# Altium integrated library Microchip PIC18.IntLib: 1897 symbols (part 51 of 110)
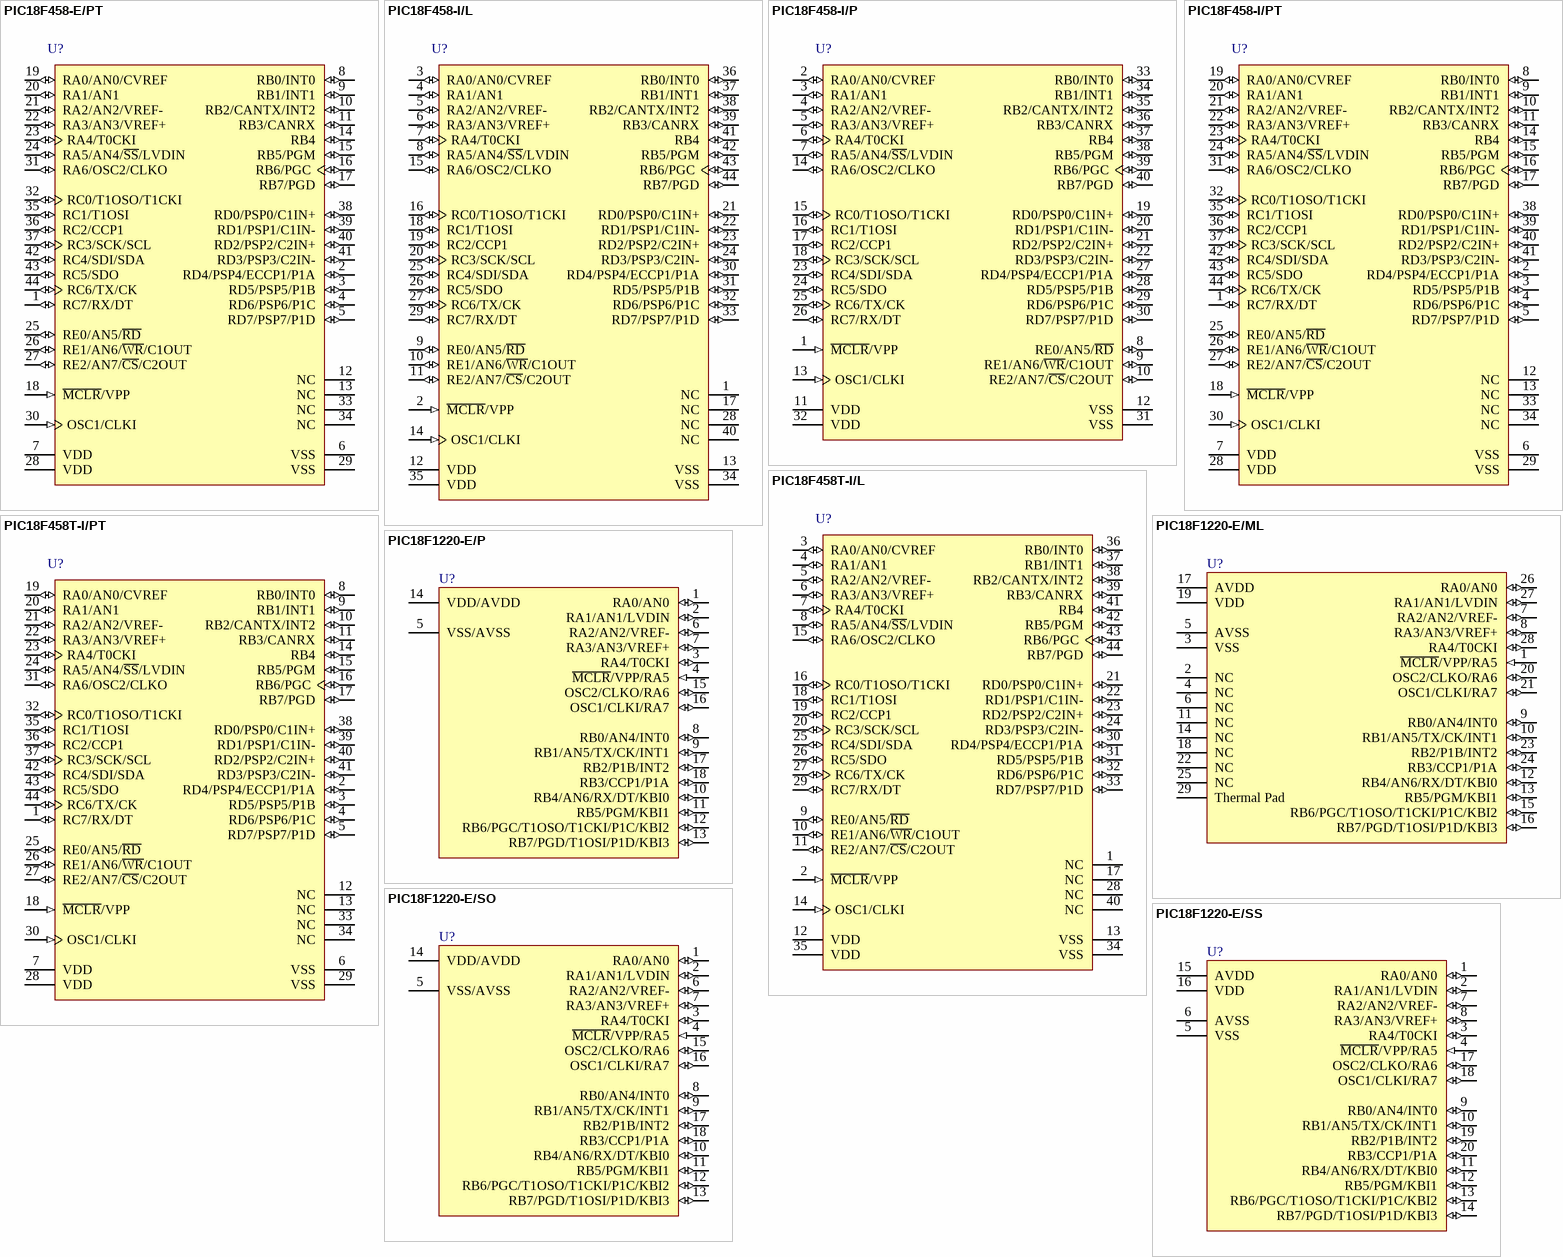
[diagram p248: symbols PIC18F458-E/PT to PIC18F1220-E/SS]

## PIC18F458T-I/L
designator U?
High-Performance, Enhanced Flash Microcontroller with CAN Module, 40 MHz, 33 I/O, -40 to 85 degC, 44-pin PLCC (L44), Tape and Reel; Manufacturer: Microchip; PartNumber: PIC18F458T-I/L; # of A/D Channels: 8; Digital Communication: 0 -UART, 1 -A/E/USART, 0 -SPI, 0 -I2C, 1 -MSSP(SPI/I2C), 0 -SSP(SPI/I2C); EEPROM Data Memory (bytes): 256; I/O Pins: 33; Max. CPU Speed MHz: 40; Operation Voltage Range: 4.2V - 5.5V; Packing: T/R; Program Memory KBytes: 32; Program Memory KWords: 16; RAM: 1536; Timers: 1 - 8-bit, 3 - 16-bit; DatasheetVersion: Rev. E; PackageVersion: C04-048B, 04/2013; PackageReference: PLCC-L44; PackageDescription: 44-Lead Plastic Leaded Chip Carrier, Body 16.5862 x 16.5862 mm, Pitch 1.27 mm; Supplier 1: Digi-Key; Supplier Part Number 1: PIC18F458T-I/L-ND; Supplier 2: Mouser; Supplier Part Number 2: 579-PIC18F458T-I/L; Memory Type: Flash; RoHS: TRUE; Mounting Technology: Surface Mount; ComponentLink1Description: Datasheet; ComponentLink1URL: http://ww1.microchip.com/downloads/en/DeviceDoc/41159e.pdf; ComponentLink2Description: Package Specification; ComponentLink2URL: http://www.microchip.com/stellent/groups/techpub_sg/documents/packagingspec/en012702.pdf; ComponentLink3Description: URL Link1; ComponentLink3URL: Product URL:http://www.microchip.com/datasheet/PIC18F458
footprint MCHP-PLCC-L44_N (PLCC, 44-Leads, Body 16.586x16.586mm, Pitch 1.27mm, IPC Medium Density)
footprint MCHP-PLCC-L44_L (PLCC, 44-Leads, Body 16.586x16.586mm, Pitch 1.27mm, IPC High Density)
footprint MCHP-PLCC-L44_M (PLCC, 44-Leads, Body 16.586x16.586mm, Pitch 1.27mm, IPC Low Density)
pins: 1 NC, 2 ~{MCLR}/VPP (in), 3 RA0/AN0/CVREF (io), 4 RA1/AN1 (io), 5 RA2/AN2/VREF- (io), 6 RA3/AN3/VREF+ (io), 7 RA4/T0CKI (io), 8 RA5/AN4/~{SS}/LVDIN (io), 9 RE0/AN5/~{RD} (io), 10 RE1/AN6/~{WR}/C1OUT (io), 11 RE2/AN7/~{CS}/C2OUT (io), 12 VDD (power) "Positive supply for logic and I/O pins.", 13 VSS (power) "Ground reference for logic and I/O pins.", 14 OSC1/CLKI (in), 15 RA6/OSC2/CLKO (io), 16 RC0/T1OSO/T1CKI (io), 17 NC, 18 RC1/T1OSI (io), 19 RC2/CCP1 (io), 20 RC3/SCK/SCL (io), 21 RD0/PSP0/C1IN+ (io), 22 RD1/PSP1/C1IN- (io), 23 RD2/PSP2/C2IN+ (io), 24 RD3/PSP3/C2IN- (io), 25 RC4/SDI/SDA (io), 26 RC5/SDO (io), 27 RC6/TX/CK (io), 28 NC, 29 RC7/RX/DT (io), 30 RD4/PSP4/ECCP1/P1A (io), 31 RD5/PSP5/P1B (io), 32 RD6/PSP6/P1C (io), 33 RD7/PSP7/P1D (io), 34 VSS (power) "Ground reference for logic and I/O pins.", 35 VDD (power) "Positive supply for logic and I/O pins.", 36 RB0/INT0 (io), 37 RB1/INT1 (io), 38 RB2/CANTX/INT2 (io), 39 RB3/CANRX (io), 40 NC, 41 RB4 (io) "PORTB is a bi-directional I/O port. PORTB can be software programmed for internal weak pull-up on all inputs. Interrupt on change pin.", 42 RB5/PGM (io), 43 RB6/PGC (io), 44 RB7/PGD (io)

## PIC18F458T-I/PT
designator U?
High-Performance, Enhanced Flash Microcontroller with CAN Module, 40 MHz, 33 I/O, -40 to 85 degC, 44-pin TQFP (PT44), Tape and Reel; Manufacturer: Microchip; PartNumber: PIC18F458T-I/PT; # of A/D Channels: 8; Digital Communication: 0 -UART, 1 -A/E/USART, 0 -SPI, 0 -I2C, 1 -MSSP(SPI/I2C), 0 -SSP(SPI/I2C); EEPROM Data Memory (bytes): 256; I/O Pins: 33; Max. CPU Speed MHz: 40; Operation Voltage Range: 4.2V - 5.5V; Packing: T/R; Program Memory KBytes: 32; Program Memory KWords: 16; RAM: 1536; Timers: 1 - 8-bit, 3 - 16-bit; DatasheetVersion: Rev. E; PackageVersion: C04-076B, 12/2012; PackageReference: TQFP-PT44; PackageDescription: 44-Lead Plastic Thin Quad Flatpack, 10 x 10 mm Body, 0.8 mm Pitch; Supplier 1: Digi-Key; Supplier Part Number 1: PIC18F458T-I/PT-ND; Supplier 2: Mouser; Supplier Part Number 2: 579-PIC18F458T-I/PT; Memory Type: Flash; RoHS: TRUE; Mounting Technology: Surface Mount; ComponentLink1Description: Datasheet; ComponentLink1URL: http://ww1.microchip.com/downloads/en/DeviceDoc/41159e.pdf; ComponentLink2Description: Package Specification; ComponentLink2URL: http://www.microchip.com/stellent/groups/techpub_sg/documents/packagingspec/en012702.pdf; ComponentLink3Description: URL Link1; ComponentLink3URL: Product URL:http://www.microchip.com/datasheet/PIC18F458
footprint MCHP-TQFP-PT44_N (QFN, 44-Leads, Body 10x10mm, Pitch 0.8mm, IPC Medium Density)
footprint MCHP-TQFP-PT44_L (QFN, 44-Leads, Body 10x10mm, Pitch 0.8mm, IPC High Density)
footprint MCHP-TQFP-PT44_M (QFN, 44-Leads, Body 10x10mm, Pitch 0.8mm, IPC Low Density)
pins: 1 RC7/RX/DT (io), 2 RD4/PSP4/ECCP1/P1A (io), 3 RD5/PSP5/P1B (io), 4 RD6/PSP6/P1C (io), 5 RD7/PSP7/P1D (io), 6 VSS (power) "Ground reference for logic and I/O pins.", 7 VDD (power) "Positive supply for logic and I/O pins.", 8 RB0/INT0 (io), 9 RB1/INT1 (io), 10 RB2/CANTX/INT2 (io), 11 RB3/CANRX (io), 12 NC, 13 NC, 14 RB4 (io) "Digital I/O. Interrupt-on-change pin.", 15 RB5/PGM (io), 16 RB6/PGC (io), 17 RB7/PGD (io), 18 ~{MCLR}/VPP (in), 19 RA0/AN0/CVREF (io), 20 RA1/AN1 (io), 21 RA2/AN2/VREF- (io), 22 RA3/AN3/VREF+ (io), 23 RA4/T0CKI (io), 24 RA5/AN4/~{SS}/LVDIN (io), 25 RE0/AN5/~{RD} (io), 26 RE1/AN6/~{WR}/C1OUT (io), 27 RE2/AN7/~{CS}/C2OUT (io), 28 VDD (power) "Positive supply for logic and I/O pins.", 29 VSS (power) "Ground reference for logic and I/O pins.", 30 OSC1/CLKI (in), 31 RA6/OSC2/CLKO (io), 32 RC0/T1OSO/T1CKI (io), 33 NC, 34 NC, 35 RC1/T1OSI (io), 36 RC2/CCP1 (io), 37 RC3/SCK/SCL (io), 38 RD0/PSP0/C1IN+ (io), 39 RD1/PSP1/C1IN- (io), 40 RD2/PSP2/C2IN+ (io), 41 RD3/PSP3/C2IN- (io), 42 RC4/SDI/SDA (io), 43 RC5/SDO (io), 44 RC6/TX/CK (io)

## PIC18F1220-E/ML
designator U?
High Performance, Enhanced Flash Microcontroller with 10-Bit A/D and nanoWatt Technology, 4K Flash, 28-Pin QFN, Extended Temperature; Manufacturer: Microchip; PartNumber: PIC18F1220-E/ML; DatasheetVersion: revF, Feb-2007; PackageVersion: C04-105C, 12/2012; PackageReference: QFN-ML28; PackageDescription: 28-Lead Plastic Quad Flat, 6 x 6 mm Body, 0.65 mm Pitch; ComponentLink1Description: Manufacturer URL; ComponentLink1URL: http://www.microchip.com/; ComponentLink2Description: Datasheet; ComponentLink2URL: http://ww1.microchip.com/downloads/en/DeviceDoc/39605F.pdf; ComponentLink3Description: Package Specification; ComponentLink3URL: http://www.microchip.com/stellent/groups/techpub_sg/documents/packagingspec/en012702.pdf
footprint MCHP-QFN-ML28_N (QFN, 28-Leads, Body 6x6mm, Pitch 0.65mm, Thermal Pad 3.7x3.7mm, IPC Medium Density)
footprint MCHP-QFN-ML28_L (QFN, 28-Leads, Body 6x6mm, Pitch 0.65mm, Thermal Pad 3.7x3.7mm, IPC High Density)
footprint MCHP-QFN-ML28_M (QFN, 28-Leads, Body 6x6mm, Pitch 0.65mm, Thermal Pad 3.7x3.7mm, IPC Low Density)
pins: 1 ~{MCLR}/VPP/RA5 (in), 2 NC, 3 VSS (power), 4 NC, 5 AVSS (power), 6 NC, 7 RA2/AN2/VREF- (io), 8 RA3/AN3/VREF+ (io), 9 RB0/AN4/INT0 (io), 10 RB1/AN5/TX/CK/INT1 (io), 11 NC, 12 RB4/AN6/RX/DT/KBI0 (io), 13 RB5/PGM/KBI1 (io), 14 NC, 15 RB6/PGC/T1OSO/T1CKI/P1C/KBI2 (io), 16 RB7/PGD/T1OSI/P1D/KBI3 (io), 17 AVDD (power), 18 NC, 19 VDD (power), 20 OSC2/CLKO/RA6 (io), 21 OSC1/CLKI/RA7 (io), 22 NC, 23 RB2/P1B/INT2 (io), 24 RB3/CCP1/P1A (io), 25 NC, 26 RA0/AN0 (io), 27 RA1/AN1/LVDIN (io), 28 RA4/T0CKI (io), 29 Thermal Pad (power)

## PIC18F1220-E/P
designator U?
High Performance, Enhanced Flash Microcontroller with 10-Bit A/D and nanoWatt Technology, 4K Flash, 18-Pin PDIP, Extended Temperature; Manufacturer: Microchip; PartNumber: PIC18F1220-E/P; DatasheetVersion: revF, Feb-2007; PackageVersion: revBB, Aug-2009; PackageReference: PDIP300-P18; PackageDescription: 18-Lead Plastic Dual In-Line (P) - 300 mil Body [PDIP]; Code_JEDEC: MS-001; ComponentLink1Description: Manufacturer URL; ComponentLink1URL: http://www.microchip.com/; ComponentLink2Description: Datasheet; ComponentLink2URL: http://ww1.microchip.com/downloads/en/DeviceDoc/39605F.pdf; ComponentLink3Description: Package Specification; ComponentLink3URL: http://www.microchip.com/stellent/groups/techpub_sg/documents/packagingspec/en012702.pdf
footprint PDIP300-P18 (DIP, 18-Leads, Row Spacing 7.62mm, Pitch 2.54mm, Body 22.9x6.6mm)
pins: 1 RA0/AN0 (io), 2 RA1/AN1/LVDIN (io), 3 RA4/T0CKI (io), 4 ~{MCLR}/VPP/RA5 (in), 5 VSS/AVSS (power), 6 RA2/AN2/VREF- (io), 7 RA3/AN3/VREF+ (io), 8 RB0/AN4/INT0 (io), 9 RB1/AN5/TX/CK/INT1 (io), 10 RB4/AN6/RX/DT/KBI0 (io), 11 RB5/PGM/KBI1 (io), 12 RB6/PGC/T1OSO/T1CKI/P1C/KBI2 (io), 13 RB7/PGD/T1OSI/P1D/KBI3 (io), 14 VDD/AVDD (power), 15 OSC2/CLKO/RA6 (io), 16 OSC1/CLKI/RA7 (io), 17 RB2/P1B/INT2 (io), 18 RB3/CCP1/P1A (io)

## PIC18F1220-E/SO
designator U?
High Performance, Enhanced Flash Microcontroller with 10-Bit A/D and nanoWatt Technology, 4K Flash, 18-Pin SOIC, Extended Temperature; Manufacturer: Microchip; PartNumber: PIC18F1220-E/SO; DatasheetVersion: revF, Feb-2007; PackageVersion: C04-051C, 12/2012; PackageReference: SOIC-SO18; PackageDescription: 18-Lead Plastic Small Outline, 7.5 x 11.55 mm Body, 1.27 mm Pitch; ComponentLink1Description: Manufacturer URL; ComponentLink1URL: http://www.microchip.com/; ComponentLink2Description: Datasheet; ComponentLink2URL: http://ww1.microchip.com/downloads/en/DeviceDoc/39605F.pdf; ComponentLink3Description: Package Specification; ComponentLink3URL: http://www.microchip.com/stellent/groups/techpub_sg/documents/packagingspec/en012702.pdf
footprint MCHP-SOIC-SO18_N (SOIC, 18-Leads, Body 11.55x7.5mm, Pitch 1.27mm, IPC Medium Density)
footprint MCHP-SOIC-SO18_L (SOIC, 18-Leads, Body 11.55x7.5mm, Pitch 1.27mm, IPC High Density)
footprint MCHP-SOIC-SO18_M (SOIC, 18-Leads, Body 11.55x7.5mm, Pitch 1.27mm, IPC Low Density)
pins: 1 RA0/AN0 (io), 2 RA1/AN1/LVDIN (io), 3 RA4/T0CKI (io), 4 ~{MCLR}/VPP/RA5 (in), 5 VSS/AVSS (power), 6 RA2/AN2/VREF- (io), 7 RA3/AN3/VREF+ (io), 8 RB0/AN4/INT0 (io), 9 RB1/AN5/TX/CK/INT1 (io), 10 RB4/AN6/RX/DT/KBI0 (io), 11 RB5/PGM/KBI1 (io), 12 RB6/PGC/T1OSO/T1CKI/P1C/KBI2 (io), 13 RB7/PGD/T1OSI/P1D/KBI3 (io), 14 VDD/AVDD (power), 15 OSC2/CLKO/RA6 (io), 16 OSC1/CLKI/RA7 (io), 17 RB2/P1B/INT2 (io), 18 RB3/CCP1/P1A (io)

## PIC18F1220-E/SS
designator U?
High Performance, Enhanced Flash Microcontroller with 10-Bit A/D and nanoWatt Technology, 4K Flash, 20-Pin SSOP, Extended Temperature; Manufacturer: Microchip; PartNumber: PIC18F1220-E/SS; DatasheetVersion: revF, Feb-2007; PackageVersion: C04-072B, 12/2012; PackageReference: SSOP-SS20; PackageDescription: 20-Lead Plastic Shrink Small Outline, 5.3 x 7.2 mm Body, 0.65 mm Pitch; ComponentLink1Description: Manufacturer URL; ComponentLink1URL: http://www.microchip.com/; ComponentLink2Description: Datasheet; ComponentLink2URL: http://ww1.microchip.com/downloads/en/DeviceDoc/39605F.pdf; ComponentLink3Description: Package Specification; ComponentLink3URL: http://www.microchip.com/stellent/groups/techpub_sg/documents/packagingspec/en012702.pdf
footprint MCHP-SSOP-SS20_N (SOP, 20-Leads, Body 7.2x5.3mm, Pitch 0.65mm, IPC Medium Density)
footprint MCHP-SSOP-SS20_L (SOP, 20-Leads, Body 7.2x5.3mm, Pitch 0.65mm, IPC High Density)
footprint MCHP-SSOP-SS20_M (SOP, 20-Leads, Body 7.2x5.3mm, Pitch 0.65mm, IPC Low Density)
pins: 1 RA0/AN0 (io), 2 RA1/AN1/LVDIN (io), 3 RA4/T0CKI (io), 4 ~{MCLR}/VPP/RA5 (in), 5 VSS (power), 6 AVSS (power), 7 RA2/AN2/VREF- (io), 8 RA3/AN3/VREF+ (io), 9 RB0/AN4/INT0 (io), 10 RB1/AN5/TX/CK/INT1 (io), 11 RB4/AN6/RX/DT/KBI0 (io), 12 RB5/PGM/KBI1 (io), 13 RB6/PGC/T1OSO/T1CKI/P1C/KBI2 (io), 14 RB7/PGD/T1OSI/P1D/KBI3 (io), 15 AVDD (power), 16 VDD (power), 17 OSC2/CLKO/RA6 (io), 18 OSC1/CLKI/RA7 (io), 19 RB2/P1B/INT2 (io), 20 RB3/CCP1/P1A (io)

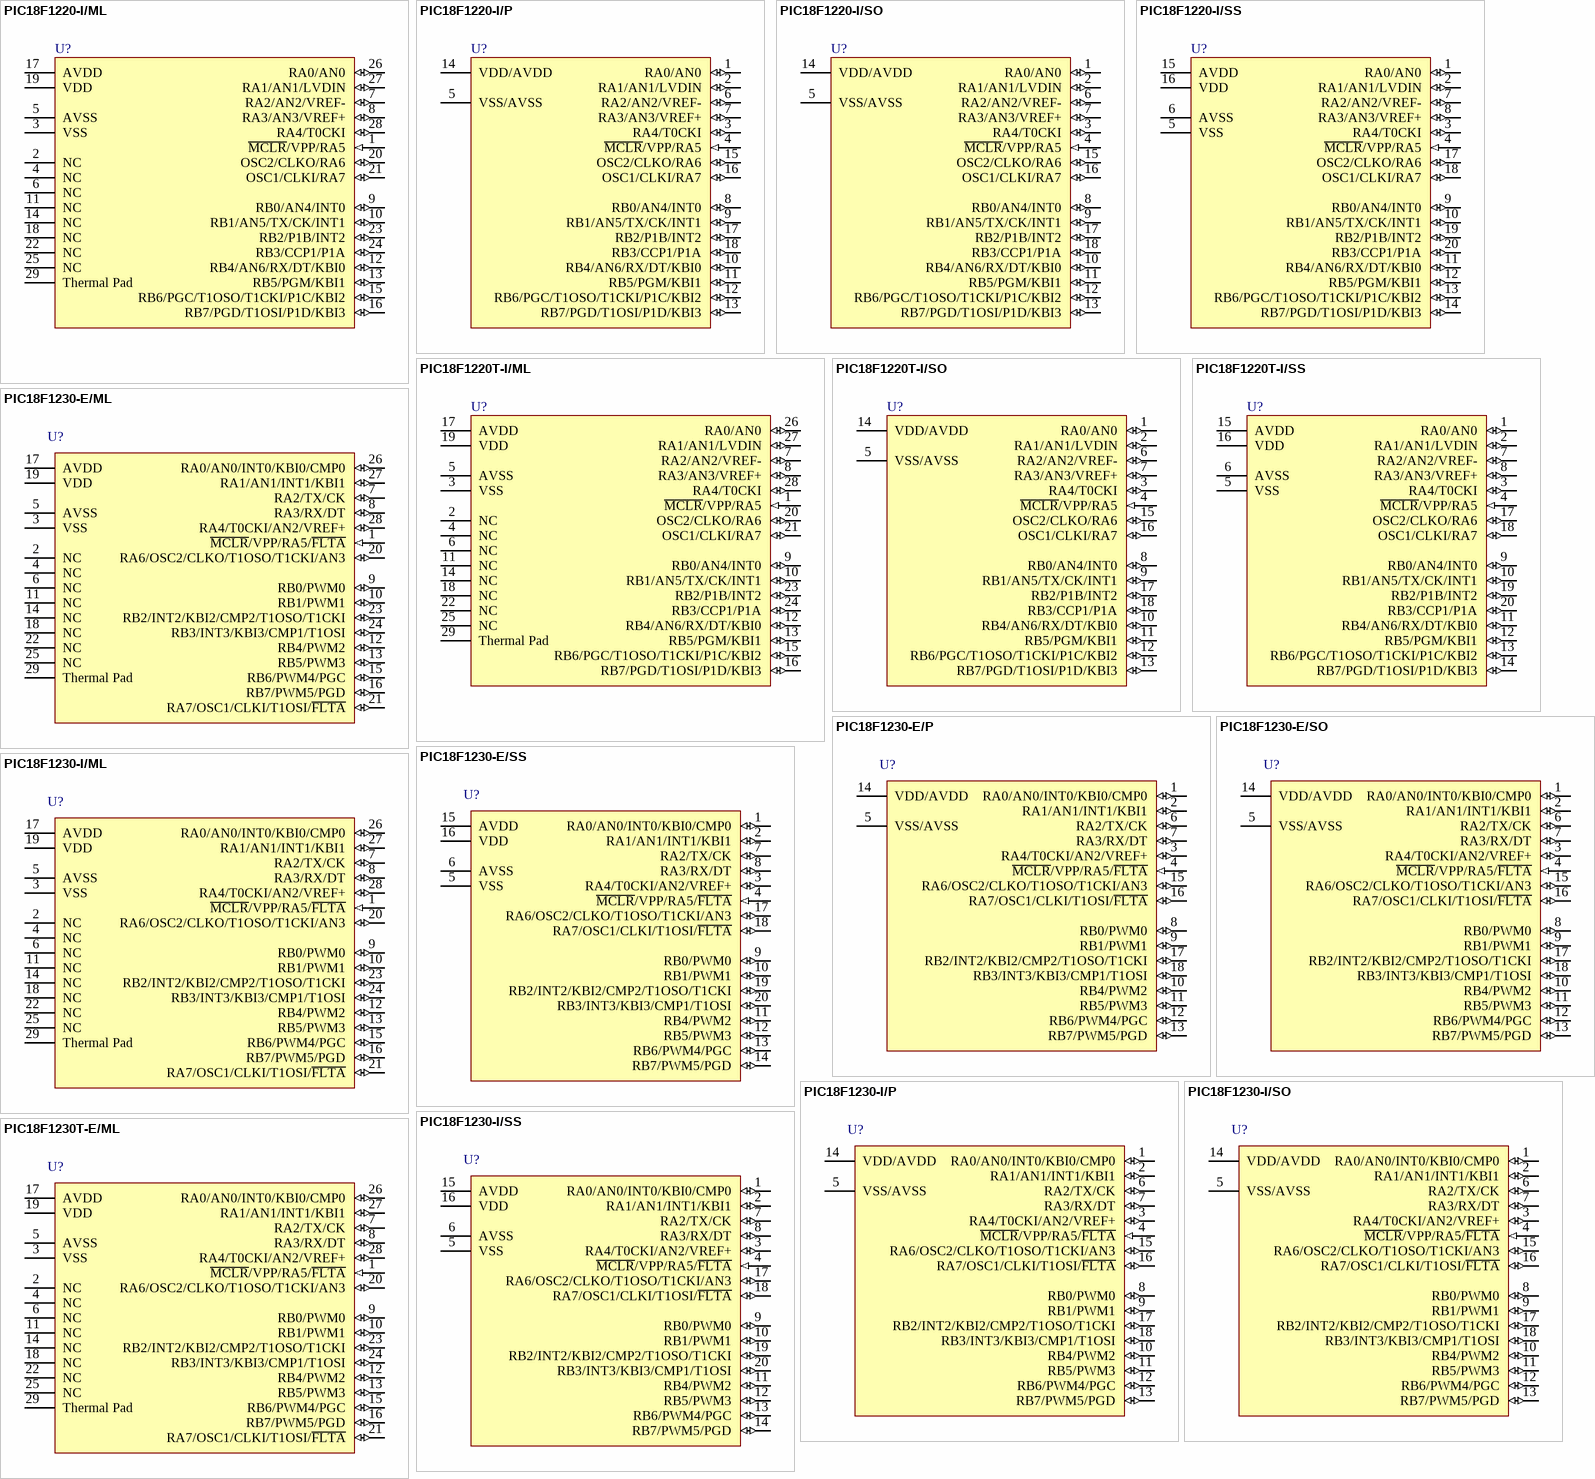
[diagram p92: symbols PIC18F1220-I/ML to PIC18F1230T-E/ML]

## PIC18F1220-I/ML
designator U?
High Performance, Enhanced Flash Microcontroller with 10-Bit A/D and nanoWatt Technology, 4K Flash, 28-Pin QFN, Industrial Temperature; Manufacturer: Microchip; PartNumber: PIC18F1220-I/ML; DatasheetVersion: revF, Feb-2007; PackageVersion: C04-105C, 12/2012; PackageReference: QFN-ML28; PackageDescription: 28-Lead Plastic Quad Flat, 6 x 6 mm Body, 0.65 mm Pitch; ComponentLink1Description: Manufacturer URL; ComponentLink1URL: http://www.microchip.com/; ComponentLink2Description: Datasheet; ComponentLink2URL: http://ww1.microchip.com/downloads/en/DeviceDoc/39605F.pdf; ComponentLink3Description: Package Specification; ComponentLink3URL: http://www.microchip.com/stellent/groups/techpub_sg/documents/packagingspec/en012702.pdf
footprint MCHP-QFN-ML28_N (QFN, 28-Leads, Body 6x6mm, Pitch 0.65mm, Thermal Pad 3.7x3.7mm, IPC Medium Density)
footprint MCHP-QFN-ML28_L (QFN, 28-Leads, Body 6x6mm, Pitch 0.65mm, Thermal Pad 3.7x3.7mm, IPC High Density)
footprint MCHP-QFN-ML28_M (QFN, 28-Leads, Body 6x6mm, Pitch 0.65mm, Thermal Pad 3.7x3.7mm, IPC Low Density)
pins: 1 ~{MCLR}/VPP/RA5 (in), 2 NC, 3 VSS (power), 4 NC, 5 AVSS (power), 6 NC, 7 RA2/AN2/VREF- (io), 8 RA3/AN3/VREF+ (io), 9 RB0/AN4/INT0 (io), 10 RB1/AN5/TX/CK/INT1 (io), 11 NC, 12 RB4/AN6/RX/DT/KBI0 (io), 13 RB5/PGM/KBI1 (io), 14 NC, 15 RB6/PGC/T1OSO/T1CKI/P1C/KBI2 (io), 16 RB7/PGD/T1OSI/P1D/KBI3 (io), 17 AVDD (power), 18 NC, 19 VDD (power), 20 OSC2/CLKO/RA6 (io), 21 OSC1/CLKI/RA7 (io), 22 NC, 23 RB2/P1B/INT2 (io), 24 RB3/CCP1/P1A (io), 25 NC, 26 RA0/AN0 (io), 27 RA1/AN1/LVDIN (io), 28 RA4/T0CKI (io), 29 Thermal Pad (power)

## PIC18F1220-I/P
designator U?
High Performance, Enhanced Flash Microcontroller with 10-Bit A/D and nanoWatt Technology, 4K Flash, 18-Pin PDIP, Industrial Temperature; Manufacturer: Microchip; PartNumber: PIC18F1220-I/P; DatasheetVersion: revF, Feb-2007; PackageVersion: revBB, Aug-2009; PackageReference: PDIP300-P18; PackageDescription: 18-Lead Plastic Dual In-Line (P) - 300 mil Body [PDIP]; Code_JEDEC: MS-001; ComponentLink1Description: Manufacturer URL; ComponentLink1URL: http://www.microchip.com/; ComponentLink2Description: Datasheet; ComponentLink2URL: http://ww1.microchip.com/downloads/en/DeviceDoc/39605F.pdf; ComponentLink3Description: Package Specification; ComponentLink3URL: http://www.microchip.com/stellent/groups/techpub_sg/documents/packagingspec/en012702.pdf
footprint PDIP300-P18 (DIP, 18-Leads, Row Spacing 7.62mm, Pitch 2.54mm, Body 22.9x6.6mm)
pins: 1 RA0/AN0 (io), 2 RA1/AN1/LVDIN (io), 3 RA4/T0CKI (io), 4 ~{MCLR}/VPP/RA5 (in), 5 VSS/AVSS (power), 6 RA2/AN2/VREF- (io), 7 RA3/AN3/VREF+ (io), 8 RB0/AN4/INT0 (io), 9 RB1/AN5/TX/CK/INT1 (io), 10 RB4/AN6/RX/DT/KBI0 (io), 11 RB5/PGM/KBI1 (io), 12 RB6/PGC/T1OSO/T1CKI/P1C/KBI2 (io), 13 RB7/PGD/T1OSI/P1D/KBI3 (io), 14 VDD/AVDD (power), 15 OSC2/CLKO/RA6 (io), 16 OSC1/CLKI/RA7 (io), 17 RB2/P1B/INT2 (io), 18 RB3/CCP1/P1A (io)

## PIC18F1220-I/SO
designator U?
High Performance, Enhanced Flash Microcontroller with 10-Bit A/D and nanoWatt Technology, 4K Flash, 18-Pin SOIC, Industrial Temperature; Manufacturer: Microchip; PartNumber: PIC18F1220-I/SO; DatasheetVersion: revF, Feb-2007; PackageVersion: C04-051C, 12/2012; PackageReference: SOIC-SO18; PackageDescription: 18-Lead Plastic Small Outline, 7.5 x 11.55 mm Body, 1.27 mm Pitch; ComponentLink1Description: Manufacturer URL; ComponentLink1URL: http://www.microchip.com/; ComponentLink2Description: Datasheet; ComponentLink2URL: http://ww1.microchip.com/downloads/en/DeviceDoc/39605F.pdf; ComponentLink3Description: Package Specification; ComponentLink3URL: http://www.microchip.com/stellent/groups/techpub_sg/documents/packagingspec/en012702.pdf
footprint MCHP-SOIC-SO18_N (SOIC, 18-Leads, Body 11.55x7.5mm, Pitch 1.27mm, IPC Medium Density)
footprint MCHP-SOIC-SO18_L (SOIC, 18-Leads, Body 11.55x7.5mm, Pitch 1.27mm, IPC High Density)
footprint MCHP-SOIC-SO18_M (SOIC, 18-Leads, Body 11.55x7.5mm, Pitch 1.27mm, IPC Low Density)
pins: 1 RA0/AN0 (io), 2 RA1/AN1/LVDIN (io), 3 RA4/T0CKI (io), 4 ~{MCLR}/VPP/RA5 (in), 5 VSS/AVSS (power), 6 RA2/AN2/VREF- (io), 7 RA3/AN3/VREF+ (io), 8 RB0/AN4/INT0 (io), 9 RB1/AN5/TX/CK/INT1 (io), 10 RB4/AN6/RX/DT/KBI0 (io), 11 RB5/PGM/KBI1 (io), 12 RB6/PGC/T1OSO/T1CKI/P1C/KBI2 (io), 13 RB7/PGD/T1OSI/P1D/KBI3 (io), 14 VDD/AVDD (power), 15 OSC2/CLKO/RA6 (io), 16 OSC1/CLKI/RA7 (io), 17 RB2/P1B/INT2 (io), 18 RB3/CCP1/P1A (io)

## PIC18F1220-I/SS
designator U?
High Performance, Enhanced Flash Microcontroller with 10-Bit A/D and nanoWatt Technology, 4K Flash, 20-Pin SSOP, Industrial Temperature; Manufacturer: Microchip; PartNumber: PIC18F1220-I/SS; DatasheetVersion: revF, Feb-2007; PackageVersion: C04-072B, 12/2012; PackageReference: SSOP-SS20; PackageDescription: 20-Lead Plastic Shrink Small Outline, 5.3 x 7.2 mm Body, 0.65 mm Pitch; ComponentLink1Description: Manufacturer URL; ComponentLink1URL: http://www.microchip.com/; ComponentLink2Description: Datasheet; ComponentLink2URL: http://ww1.microchip.com/downloads/en/DeviceDoc/39605F.pdf; ComponentLink3Description: Package Specification; ComponentLink3URL: http://www.microchip.com/stellent/groups/techpub_sg/documents/packagingspec/en012702.pdf
footprint MCHP-SSOP-SS20_N (SOP, 20-Leads, Body 7.2x5.3mm, Pitch 0.65mm, IPC Medium Density)
footprint MCHP-SSOP-SS20_L (SOP, 20-Leads, Body 7.2x5.3mm, Pitch 0.65mm, IPC High Density)
footprint MCHP-SSOP-SS20_M (SOP, 20-Leads, Body 7.2x5.3mm, Pitch 0.65mm, IPC Low Density)
pins: 1 RA0/AN0 (io), 2 RA1/AN1/LVDIN (io), 3 RA4/T0CKI (io), 4 ~{MCLR}/VPP/RA5 (in), 5 VSS (power), 6 AVSS (power), 7 RA2/AN2/VREF- (io), 8 RA3/AN3/VREF+ (io), 9 RB0/AN4/INT0 (io), 10 RB1/AN5/TX/CK/INT1 (io), 11 RB4/AN6/RX/DT/KBI0 (io), 12 RB5/PGM/KBI1 (io), 13 RB6/PGC/T1OSO/T1CKI/P1C/KBI2 (io), 14 RB7/PGD/T1OSI/P1D/KBI3 (io), 15 AVDD (power), 16 VDD (power), 17 OSC2/CLKO/RA6 (io), 18 OSC1/CLKI/RA7 (io), 19 RB2/P1B/INT2 (io), 20 RB3/CCP1/P1A (io)

## PIC18F1220T-I/ML
designator U?
High Performance, Enhanced Flash Microcontroller with 10-Bit A/D and nanoWatt Technology, 4K Flash, 28-Pin QFN, Industrial Temperature, Tape and Reel; Manufacturer: Microchip; PartNumber: PIC18F1220T-I/ML; DatasheetVersion: revF, Feb-2007; PackageVersion: C04-105C, 12/2012; PackageReference: QFN-ML28; PackageDescription: 28-Lead Plastic Quad Flat, 6 x 6 mm Body, 0.65 mm Pitch; ComponentLink1Description: Manufacturer URL; ComponentLink1URL: http://www.microchip.com/; ComponentLink2Description: Datasheet; ComponentLink2URL: http://ww1.microchip.com/downloads/en/DeviceDoc/39605F.pdf; ComponentLink3Description: Package Specification; ComponentLink3URL: http://www.microchip.com/stellent/groups/techpub_sg/documents/packagingspec/en012702.pdf
footprint MCHP-QFN-ML28_N (QFN, 28-Leads, Body 6x6mm, Pitch 0.65mm, Thermal Pad 3.7x3.7mm, IPC Medium Density)
footprint MCHP-QFN-ML28_L (QFN, 28-Leads, Body 6x6mm, Pitch 0.65mm, Thermal Pad 3.7x3.7mm, IPC High Density)
footprint MCHP-QFN-ML28_M (QFN, 28-Leads, Body 6x6mm, Pitch 0.65mm, Thermal Pad 3.7x3.7mm, IPC Low Density)
pins: 1 ~{MCLR}/VPP/RA5 (in), 2 NC, 3 VSS (power), 4 NC, 5 AVSS (power), 6 NC, 7 RA2/AN2/VREF- (io), 8 RA3/AN3/VREF+ (io), 9 RB0/AN4/INT0 (io), 10 RB1/AN5/TX/CK/INT1 (io), 11 NC, 12 RB4/AN6/RX/DT/KBI0 (io), 13 RB5/PGM/KBI1 (io), 14 NC, 15 RB6/PGC/T1OSO/T1CKI/P1C/KBI2 (io), 16 RB7/PGD/T1OSI/P1D/KBI3 (io), 17 AVDD (power), 18 NC, 19 VDD (power), 20 OSC2/CLKO/RA6 (io), 21 OSC1/CLKI/RA7 (io), 22 NC, 23 RB2/P1B/INT2 (io), 24 RB3/CCP1/P1A (io), 25 NC, 26 RA0/AN0 (io), 27 RA1/AN1/LVDIN (io), 28 RA4/T0CKI (io), 29 Thermal Pad (power)

## PIC18F1220T-I/SO
designator U?
High Performance, Enhanced Flash Microcontroller with 10-Bit A/D and nanoWatt Technology, 4K Flash, 18-Pin SOIC, Industrial Temperature, Tape and Reel; Manufacturer: Microchip; PartNumber: PIC18F1220T-I/SO; DatasheetVersion: revF, Feb-2007; PackageVersion: C04-051C, 12/2012; PackageReference: SOIC-SO18; PackageDescription: 18-Lead Plastic Small Outline, 7.5 x 11.55 mm Body, 1.27 mm Pitch; ComponentLink1Description: Manufacturer URL; ComponentLink1URL: http://www.microchip.com/; ComponentLink2Description: Datasheet; ComponentLink2URL: http://ww1.microchip.com/downloads/en/DeviceDoc/39605F.pdf; ComponentLink3Description: Package Specification; ComponentLink3URL: http://www.microchip.com/stellent/groups/techpub_sg/documents/packagingspec/en012702.pdf
footprint MCHP-SOIC-SO18_N (SOIC, 18-Leads, Body 11.55x7.5mm, Pitch 1.27mm, IPC Medium Density)
footprint MCHP-SOIC-SO18_L (SOIC, 18-Leads, Body 11.55x7.5mm, Pitch 1.27mm, IPC High Density)
footprint MCHP-SOIC-SO18_M (SOIC, 18-Leads, Body 11.55x7.5mm, Pitch 1.27mm, IPC Low Density)
pins: 1 RA0/AN0 (io), 2 RA1/AN1/LVDIN (io), 3 RA4/T0CKI (io), 4 ~{MCLR}/VPP/RA5 (in), 5 VSS/AVSS (power), 6 RA2/AN2/VREF- (io), 7 RA3/AN3/VREF+ (io), 8 RB0/AN4/INT0 (io), 9 RB1/AN5/TX/CK/INT1 (io), 10 RB4/AN6/RX/DT/KBI0 (io), 11 RB5/PGM/KBI1 (io), 12 RB6/PGC/T1OSO/T1CKI/P1C/KBI2 (io), 13 RB7/PGD/T1OSI/P1D/KBI3 (io), 14 VDD/AVDD (power), 15 OSC2/CLKO/RA6 (io), 16 OSC1/CLKI/RA7 (io), 17 RB2/P1B/INT2 (io), 18 RB3/CCP1/P1A (io)

## PIC18F1220T-I/SS
designator U?
High Performance, Enhanced Flash Microcontroller with 10-Bit A/D and nanoWatt Technology, 4K Flash, 20-Pin SSOP, Industrial Temperature, Tape and Reel; Manufacturer: Microchip; PartNumber: PIC18F1220T-I/SS; DatasheetVersion: revF, Feb-2007; PackageVersion: C04-072B, 12/2012; PackageReference: SSOP-SS20; PackageDescription: 20-Lead Plastic Shrink Small Outline, 5.3 x 7.2 mm Body, 0.65 mm Pitch; ComponentLink1Description: Manufacturer URL; ComponentLink1URL: http://www.microchip.com/; ComponentLink2Description: Datasheet; ComponentLink2URL: http://ww1.microchip.com/downloads/en/DeviceDoc/39605F.pdf; ComponentLink3Description: Package Specification; ComponentLink3URL: http://www.microchip.com/stellent/groups/techpub_sg/documents/packagingspec/en012702.pdf
footprint MCHP-SSOP-SS20_N (SOP, 20-Leads, Body 7.2x5.3mm, Pitch 0.65mm, IPC Medium Density)
footprint MCHP-SSOP-SS20_L (SOP, 20-Leads, Body 7.2x5.3mm, Pitch 0.65mm, IPC High Density)
footprint MCHP-SSOP-SS20_M (SOP, 20-Leads, Body 7.2x5.3mm, Pitch 0.65mm, IPC Low Density)
pins: 1 RA0/AN0 (io), 2 RA1/AN1/LVDIN (io), 3 RA4/T0CKI (io), 4 ~{MCLR}/VPP/RA5 (in), 5 VSS (power), 6 AVSS (power), 7 RA2/AN2/VREF- (io), 8 RA3/AN3/VREF+ (io), 9 RB0/AN4/INT0 (io), 10 RB1/AN5/TX/CK/INT1 (io), 11 RB4/AN6/RX/DT/KBI0 (io), 12 RB5/PGM/KBI1 (io), 13 RB6/PGC/T1OSO/T1CKI/P1C/KBI2 (io), 14 RB7/PGD/T1OSI/P1D/KBI3 (io), 15 AVDD (power), 16 VDD (power), 17 OSC2/CLKO/RA6 (io), 18 OSC1/CLKI/RA7 (io), 19 RB2/P1B/INT2 (io), 20 RB3/CCP1/P1A (io)

## PIC18F1230-E/ML
designator U?
Enhanced Flash Microcontroller with nanoWatt Technology, High Performance PWM and A/D, 4K Flash, 28-Pin QFN, Extended Temperature; Manufacturer: Microchip; PartNumber: PIC18F1230-E/ML; DatasheetVersion: revC, Mar-2007; PackageVersion: C04-105C, 12/2012; PackageReference: QFN-ML28; PackageDescription: 28-Lead Plastic Quad Flat, 6 x 6 mm Body, 0.65 mm Pitch; ComponentLink1Description: Manufacturer URL; ComponentLink1URL: http://www.microchip.com/; ComponentLink2Description: Datasheet; ComponentLink2URL: http://ww1.microchip.com/downloads/en/DeviceDoc/39758c.pdf; ComponentLink3Description: Package Specification; ComponentLink3URL: http://www.microchip.com/stellent/groups/techpub_sg/documents/packagingspec/en012702.pdf
footprint MCHP-QFN-ML28_N (QFN, 28-Leads, Body 6x6mm, Pitch 0.65mm, Thermal Pad 3.7x3.7mm, IPC Medium Density)
footprint MCHP-QFN-ML28_L (QFN, 28-Leads, Body 6x6mm, Pitch 0.65mm, Thermal Pad 3.7x3.7mm, IPC High Density)
footprint MCHP-QFN-ML28_M (QFN, 28-Leads, Body 6x6mm, Pitch 0.65mm, Thermal Pad 3.7x3.7mm, IPC Low Density)
pins: 1 ~{MCLR}/VPP/RA5/~{FLTA} (in), 2 NC, 3 VSS (power), 4 NC, 5 AVSS (power), 6 NC, 7 RA2/TX/CK (io), 8 RA3/RX/DT (io), 9 RB0/PWM0 (io), 10 RB1/PWM1 (io), 11 NC, 12 RB4/PWM2 (io), 13 RB5/PWM3 (io), 14 NC, 15 RB6/PWM4/PGC (io), 16 RB7/PWM5/PGD (io), 17 AVDD (power), 18 NC, 19 VDD (power), 20 RA6/OSC2/CLKO/T1OSO/T1CKI/AN3 (io), 21 RA7/OSC1/CLKI/T1OSI/~{FLTA} (io), 22 NC, 23 RB2/INT2/KBI2/CMP2/T1OSO/T1CKI (io), 24 RB3/INT3/KBI3/CMP1/T1OSI (io), 25 NC, 26 RA0/AN0/INT0/KBI0/CMP0 (io), 27 RA1/AN1/INT1/KBI1 (io), 28 RA4/T0CKI/AN2/VREF+ (io), 29 Thermal Pad (power)

## PIC18F1230-E/P
designator U?
Enhanced Flash Microcontroller with nanoWatt Technology, High Performance PWM and A/D, 4K Flash, 18-Pin PDIP, Extended Temperature; Manufacturer: Microchip; PartNumber: PIC18F1230-E/P; DatasheetVersion: revC, Mar-2007; PackageVersion: revBB, Aug-2009; PackageReference: PDIP300-P18; PackageDescription: 18-Lead Plastic Dual In-Line (P) - 300 mil Body [PDIP]; Code_JEDEC: MS-001; ComponentLink1Description: Manufacturer URL; ComponentLink1URL: http://www.microchip.com/; ComponentLink2Description: Datasheet; ComponentLink2URL: http://ww1.microchip.com/downloads/en/DeviceDoc/39758c.pdf; ComponentLink3Description: Package Specification; ComponentLink3URL: http://www.microchip.com/stellent/groups/techpub_sg/documents/packagingspec/en012702.pdf
footprint PDIP300-P18 (DIP, 18-Leads, Row Spacing 7.62mm, Pitch 2.54mm, Body 22.9x6.6mm)
pins: 1 RA0/AN0/INT0/KBI0/CMP0 (io), 2 RA1/AN1/INT1/KBI1 (io), 3 RA4/T0CKI/AN2/VREF+ (io), 4 ~{MCLR}/VPP/RA5/~{FLTA} (in), 5 VSS/AVSS (power), 6 RA2/TX/CK (io), 7 RA3/RX/DT (io), 8 RB0/PWM0 (io), 9 RB1/PWM1 (io), 10 RB4/PWM2 (io), 11 RB5/PWM3 (io), 12 RB6/PWM4/PGC (io), 13 RB7/PWM5/PGD (io), 14 VDD/AVDD (power), 15 RA6/OSC2/CLKO/T1OSO/T1CKI/AN3 (io), 16 RA7/OSC1/CLKI/T1OSI/~{FLTA} (io), 17 RB2/INT2/KBI2/CMP2/T1OSO/T1CKI (io), 18 RB3/INT3/KBI3/CMP1/T1OSI (io)

## PIC18F1230-E/SO
designator U?
Enhanced Flash Microcontroller with nanoWatt Technology, High Performance PWM and A/D, 4K Flash, 18-Pin SOIC, Extended Temperature; Manufacturer: Microchip; PartNumber: PIC18F1230-E/SO; DatasheetVersion: revC, Mar-2007; PackageVersion: C04-051C, 12/2012; PackageReference: SOIC-SO18; PackageDescription: 18-Lead Plastic Small Outline, 7.5 x 11.55 mm Body, 1.27 mm Pitch; ComponentLink1Description: Manufacturer URL; ComponentLink1URL: http://www.microchip.com/; ComponentLink2Description: Datasheet; ComponentLink2URL: http://ww1.microchip.com/downloads/en/DeviceDoc/39758c.pdf; ComponentLink3Description: Package Specification; ComponentLink3URL: http://www.microchip.com/stellent/groups/techpub_sg/documents/packagingspec/en012702.pdf
footprint MCHP-SOIC-SO18_N (SOIC, 18-Leads, Body 11.55x7.5mm, Pitch 1.27mm, IPC Medium Density)
footprint MCHP-SOIC-SO18_L (SOIC, 18-Leads, Body 11.55x7.5mm, Pitch 1.27mm, IPC High Density)
footprint MCHP-SOIC-SO18_M (SOIC, 18-Leads, Body 11.55x7.5mm, Pitch 1.27mm, IPC Low Density)
pins: 1 RA0/AN0/INT0/KBI0/CMP0 (io), 2 RA1/AN1/INT1/KBI1 (io), 3 RA4/T0CKI/AN2/VREF+ (io), 4 ~{MCLR}/VPP/RA5/~{FLTA} (in), 5 VSS/AVSS (power), 6 RA2/TX/CK (io), 7 RA3/RX/DT (io), 8 RB0/PWM0 (io), 9 RB1/PWM1 (io), 10 RB4/PWM2 (io), 11 RB5/PWM3 (io), 12 RB6/PWM4/PGC (io), 13 RB7/PWM5/PGD (io), 14 VDD/AVDD (power), 15 RA6/OSC2/CLKO/T1OSO/T1CKI/AN3 (io), 16 RA7/OSC1/CLKI/T1OSI/~{FLTA} (io), 17 RB2/INT2/KBI2/CMP2/T1OSO/T1CKI (io), 18 RB3/INT3/KBI3/CMP1/T1OSI (io)

## PIC18F1230-E/SS
designator U?
Enhanced Flash Microcontroller with nanoWatt Technology, High Performance PWM and A/D, 4K Flash, 20-Pin SSOP, Extended Temperature; Manufacturer: Microchip; PartNumber: PIC18F1230-E/SS; DatasheetVersion: revC, Mar-2007; PackageVersion: C04-072B, 12/2012; PackageReference: SSOP-SS20; PackageDescription: 20-Lead Plastic Shrink Small Outline, 5.3 x 7.2 mm Body, 0.65 mm Pitch; ComponentLink1Description: Manufacturer URL; ComponentLink1URL: http://www.microchip.com/; ComponentLink2Description: Datasheet; ComponentLink2URL: http://ww1.microchip.com/downloads/en/DeviceDoc/39758c.pdf; ComponentLink3Description: Package Specification; ComponentLink3URL: http://www.microchip.com/stellent/groups/techpub_sg/documents/packagingspec/en012702.pdf
footprint MCHP-SSOP-SS20_N (SOP, 20-Leads, Body 7.2x5.3mm, Pitch 0.65mm, IPC Medium Density)
footprint MCHP-SSOP-SS20_L (SOP, 20-Leads, Body 7.2x5.3mm, Pitch 0.65mm, IPC High Density)
footprint MCHP-SSOP-SS20_M (SOP, 20-Leads, Body 7.2x5.3mm, Pitch 0.65mm, IPC Low Density)
pins: 1 RA0/AN0/INT0/KBI0/CMP0 (io), 2 RA1/AN1/INT1/KBI1 (io), 3 RA4/T0CKI/AN2/VREF+ (io), 4 ~{MCLR}/VPP/RA5/~{FLTA} (in), 5 VSS (power), 6 AVSS (power), 7 RA2/TX/CK (io), 8 RA3/RX/DT (io), 9 RB0/PWM0 (io), 10 RB1/PWM1 (io), 11 RB4/PWM2 (io), 12 RB5/PWM3 (io), 13 RB6/PWM4/PGC (io), 14 RB7/PWM5/PGD (io), 15 AVDD (power), 16 VDD (power), 17 RA6/OSC2/CLKO/T1OSO/T1CKI/AN3 (io), 18 RA7/OSC1/CLKI/T1OSI/~{FLTA} (io), 19 RB2/INT2/KBI2/CMP2/T1OSO/T1CKI (io), 20 RB3/INT3/KBI3/CMP1/T1OSI (io)

## PIC18F1230-I/ML
designator U?
Enhanced Flash Microcontroller with nanoWatt Technology, High Performance PWM and A/D, 4K Flash, 28-Pin QFN, Industrial Temperature; Manufacturer: Microchip; PartNumber: PIC18F1230-I/ML; DatasheetVersion: revC, Mar-2007; PackageVersion: C04-105C, 12/2012; PackageReference: QFN-ML28; PackageDescription: 28-Lead Plastic Quad Flat, 6 x 6 mm Body, 0.65 mm Pitch; ComponentLink1Description: Manufacturer URL; ComponentLink1URL: http://www.microchip.com/; ComponentLink2Description: Datasheet; ComponentLink2URL: http://ww1.microchip.com/downloads/en/DeviceDoc/39758c.pdf; ComponentLink3Description: Package Specification; ComponentLink3URL: http://www.microchip.com/stellent/groups/techpub_sg/documents/packagingspec/en012702.pdf
footprint MCHP-QFN-ML28_N (QFN, 28-Leads, Body 6x6mm, Pitch 0.65mm, Thermal Pad 3.7x3.7mm, IPC Medium Density)
footprint MCHP-QFN-ML28_L (QFN, 28-Leads, Body 6x6mm, Pitch 0.65mm, Thermal Pad 3.7x3.7mm, IPC High Density)
footprint MCHP-QFN-ML28_M (QFN, 28-Leads, Body 6x6mm, Pitch 0.65mm, Thermal Pad 3.7x3.7mm, IPC Low Density)
pins: 1 ~{MCLR}/VPP/RA5/~{FLTA} (in), 2 NC, 3 VSS (power), 4 NC, 5 AVSS (power), 6 NC, 7 RA2/TX/CK (io), 8 RA3/RX/DT (io), 9 RB0/PWM0 (io), 10 RB1/PWM1 (io), 11 NC, 12 RB4/PWM2 (io), 13 RB5/PWM3 (io), 14 NC, 15 RB6/PWM4/PGC (io), 16 RB7/PWM5/PGD (io), 17 AVDD (power), 18 NC, 19 VDD (power), 20 RA6/OSC2/CLKO/T1OSO/T1CKI/AN3 (io), 21 RA7/OSC1/CLKI/T1OSI/~{FLTA} (io), 22 NC, 23 RB2/INT2/KBI2/CMP2/T1OSO/T1CKI (io), 24 RB3/INT3/KBI3/CMP1/T1OSI (io), 25 NC, 26 RA0/AN0/INT0/KBI0/CMP0 (io), 27 RA1/AN1/INT1/KBI1 (io), 28 RA4/T0CKI/AN2/VREF+ (io), 29 Thermal Pad (power)

## PIC18F1230-I/P
designator U?
Enhanced Flash Microcontroller with nanoWatt Technology, High Performance PWM and A/D, 4K Flash, 18-Pin PDIP, Industrial Temperature; Manufacturer: Microchip; PartNumber: PIC18F1230-I/P; DatasheetVersion: revC, Mar-2007; PackageVersion: revBB, Aug-2009; PackageReference: PDIP300-P18; PackageDescription: 18-Lead Plastic Dual In-Line (P) - 300 mil Body [PDIP]; Code_JEDEC: MS-001; ComponentLink1Description: Manufacturer URL; ComponentLink1URL: http://www.microchip.com/; ComponentLink2Description: Datasheet; ComponentLink2URL: http://ww1.microchip.com/downloads/en/DeviceDoc/39758c.pdf; ComponentLink3Description: Package Specification; ComponentLink3URL: http://www.microchip.com/stellent/groups/techpub_sg/documents/packagingspec/en012702.pdf
footprint PDIP300-P18 (DIP, 18-Leads, Row Spacing 7.62mm, Pitch 2.54mm, Body 22.9x6.6mm)
pins: 1 RA0/AN0/INT0/KBI0/CMP0 (io), 2 RA1/AN1/INT1/KBI1 (io), 3 RA4/T0CKI/AN2/VREF+ (io), 4 ~{MCLR}/VPP/RA5/~{FLTA} (in), 5 VSS/AVSS (power), 6 RA2/TX/CK (io), 7 RA3/RX/DT (io), 8 RB0/PWM0 (io), 9 RB1/PWM1 (io), 10 RB4/PWM2 (io), 11 RB5/PWM3 (io), 12 RB6/PWM4/PGC (io), 13 RB7/PWM5/PGD (io), 14 VDD/AVDD (power), 15 RA6/OSC2/CLKO/T1OSO/T1CKI/AN3 (io), 16 RA7/OSC1/CLKI/T1OSI/~{FLTA} (io), 17 RB2/INT2/KBI2/CMP2/T1OSO/T1CKI (io), 18 RB3/INT3/KBI3/CMP1/T1OSI (io)

## PIC18F1230-I/SO
designator U?
Enhanced Flash Microcontroller with nanoWatt Technology, High Performance PWM and A/D, 4K Flash, 18-Pin SOIC, Industrial Temperature; Manufacturer: Microchip; PartNumber: PIC18F1230-I/SO; DatasheetVersion: revC, Mar-2007; PackageVersion: C04-051C, 12/2012; PackageReference: SOIC-SO18; PackageDescription: 18-Lead Plastic Small Outline, 7.5 x 11.55 mm Body, 1.27 mm Pitch; ComponentLink1Description: Manufacturer URL; ComponentLink1URL: http://www.microchip.com/; ComponentLink2Description: Datasheet; ComponentLink2URL: http://ww1.microchip.com/downloads/en/DeviceDoc/39758c.pdf; ComponentLink3Description: Package Specification; ComponentLink3URL: http://www.microchip.com/stellent/groups/techpub_sg/documents/packagingspec/en012702.pdf
footprint MCHP-SOIC-SO18_N (SOIC, 18-Leads, Body 11.55x7.5mm, Pitch 1.27mm, IPC Medium Density)
footprint MCHP-SOIC-SO18_L (SOIC, 18-Leads, Body 11.55x7.5mm, Pitch 1.27mm, IPC High Density)
footprint MCHP-SOIC-SO18_M (SOIC, 18-Leads, Body 11.55x7.5mm, Pitch 1.27mm, IPC Low Density)
pins: 1 RA0/AN0/INT0/KBI0/CMP0 (io), 2 RA1/AN1/INT1/KBI1 (io), 3 RA4/T0CKI/AN2/VREF+ (io), 4 ~{MCLR}/VPP/RA5/~{FLTA} (in), 5 VSS/AVSS (power), 6 RA2/TX/CK (io), 7 RA3/RX/DT (io), 8 RB0/PWM0 (io), 9 RB1/PWM1 (io), 10 RB4/PWM2 (io), 11 RB5/PWM3 (io), 12 RB6/PWM4/PGC (io), 13 RB7/PWM5/PGD (io), 14 VDD/AVDD (power), 15 RA6/OSC2/CLKO/T1OSO/T1CKI/AN3 (io), 16 RA7/OSC1/CLKI/T1OSI/~{FLTA} (io), 17 RB2/INT2/KBI2/CMP2/T1OSO/T1CKI (io), 18 RB3/INT3/KBI3/CMP1/T1OSI (io)

## PIC18F1230-I/SS
designator U?
Enhanced Flash Microcontroller with nanoWatt Technology, High Performance PWM and A/D, 4K Flash, 20-Pin SSOP, Industrial Temperature; Manufacturer: Microchip; PartNumber: PIC18F1230-I/SS; DatasheetVersion: revC, Mar-2007; PackageVersion: C04-072B, 12/2012; PackageReference: SSOP-SS20; PackageDescription: 20-Lead Plastic Shrink Small Outline, 5.3 x 7.2 mm Body, 0.65 mm Pitch; ComponentLink1Description: Manufacturer URL; ComponentLink1URL: http://www.microchip.com/; ComponentLink2Description: Datasheet; ComponentLink2URL: http://ww1.microchip.com/downloads/en/DeviceDoc/39758c.pdf; ComponentLink3Description: Package Specification; ComponentLink3URL: http://www.microchip.com/stellent/groups/techpub_sg/documents/packagingspec/en012702.pdf
footprint MCHP-SSOP-SS20_N (SOP, 20-Leads, Body 7.2x5.3mm, Pitch 0.65mm, IPC Medium Density)
footprint MCHP-SSOP-SS20_L (SOP, 20-Leads, Body 7.2x5.3mm, Pitch 0.65mm, IPC High Density)
footprint MCHP-SSOP-SS20_M (SOP, 20-Leads, Body 7.2x5.3mm, Pitch 0.65mm, IPC Low Density)
pins: 1 RA0/AN0/INT0/KBI0/CMP0 (io), 2 RA1/AN1/INT1/KBI1 (io), 3 RA4/T0CKI/AN2/VREF+ (io), 4 ~{MCLR}/VPP/RA5/~{FLTA} (in), 5 VSS (power), 6 AVSS (power), 7 RA2/TX/CK (io), 8 RA3/RX/DT (io), 9 RB0/PWM0 (io), 10 RB1/PWM1 (io), 11 RB4/PWM2 (io), 12 RB5/PWM3 (io), 13 RB6/PWM4/PGC (io), 14 RB7/PWM5/PGD (io), 15 AVDD (power), 16 VDD (power), 17 RA6/OSC2/CLKO/T1OSO/T1CKI/AN3 (io), 18 RA7/OSC1/CLKI/T1OSI/~{FLTA} (io), 19 RB2/INT2/KBI2/CMP2/T1OSO/T1CKI (io), 20 RB3/INT3/KBI3/CMP1/T1OSI (io)

## PIC18F1230T-E/ML
designator U?
Enhanced Flash Microcontroller with nanoWatt Technology, High Performance PWM and A/D, 4K Flash, 28-Pin QFN, Extended Temperature, Tape and Reel; Manufacturer: Microchip; PartNumber: PIC18F1230T-E/ML; DatasheetVersion: revC, Mar-2007; PackageVersion: C04-105C, 12/2012; PackageReference: QFN-ML28; PackageDescription: 28-Lead Plastic Quad Flat, 6 x 6 mm Body, 0.65 mm Pitch; ComponentLink1Description: Manufacturer URL; ComponentLink1URL: http://www.microchip.com/; ComponentLink2Description: Datasheet; ComponentLink2URL: http://ww1.microchip.com/downloads/en/DeviceDoc/39758c.pdf; ComponentLink3Description: Package Specification; ComponentLink3URL: http://www.microchip.com/stellent/groups/techpub_sg/documents/packagingspec/en012702.pdf
footprint MCHP-QFN-ML28_N (QFN, 28-Leads, Body 6x6mm, Pitch 0.65mm, Thermal Pad 3.7x3.7mm, IPC Medium Density)
footprint MCHP-QFN-ML28_L (QFN, 28-Leads, Body 6x6mm, Pitch 0.65mm, Thermal Pad 3.7x3.7mm, IPC High Density)
footprint MCHP-QFN-ML28_M (QFN, 28-Leads, Body 6x6mm, Pitch 0.65mm, Thermal Pad 3.7x3.7mm, IPC Low Density)
pins: 1 ~{MCLR}/VPP/RA5/~{FLTA} (in), 2 NC, 3 VSS (power), 4 NC, 5 AVSS (power), 6 NC, 7 RA2/TX/CK (io), 8 RA3/RX/DT (io), 9 RB0/PWM0 (io), 10 RB1/PWM1 (io), 11 NC, 12 RB4/PWM2 (io), 13 RB5/PWM3 (io), 14 NC, 15 RB6/PWM4/PGC (io), 16 RB7/PWM5/PGD (io), 17 AVDD (power), 18 NC, 19 VDD (power), 20 RA6/OSC2/CLKO/T1OSO/T1CKI/AN3 (io), 21 RA7/OSC1/CLKI/T1OSI/~{FLTA} (io), 22 NC, 23 RB2/INT2/KBI2/CMP2/T1OSO/T1CKI (io), 24 RB3/INT3/KBI3/CMP1/T1OSI (io), 25 NC, 26 RA0/AN0/INT0/KBI0/CMP0 (io), 27 RA1/AN1/INT1/KBI1 (io), 28 RA4/T0CKI/AN2/VREF+ (io), 29 Thermal Pad (power)

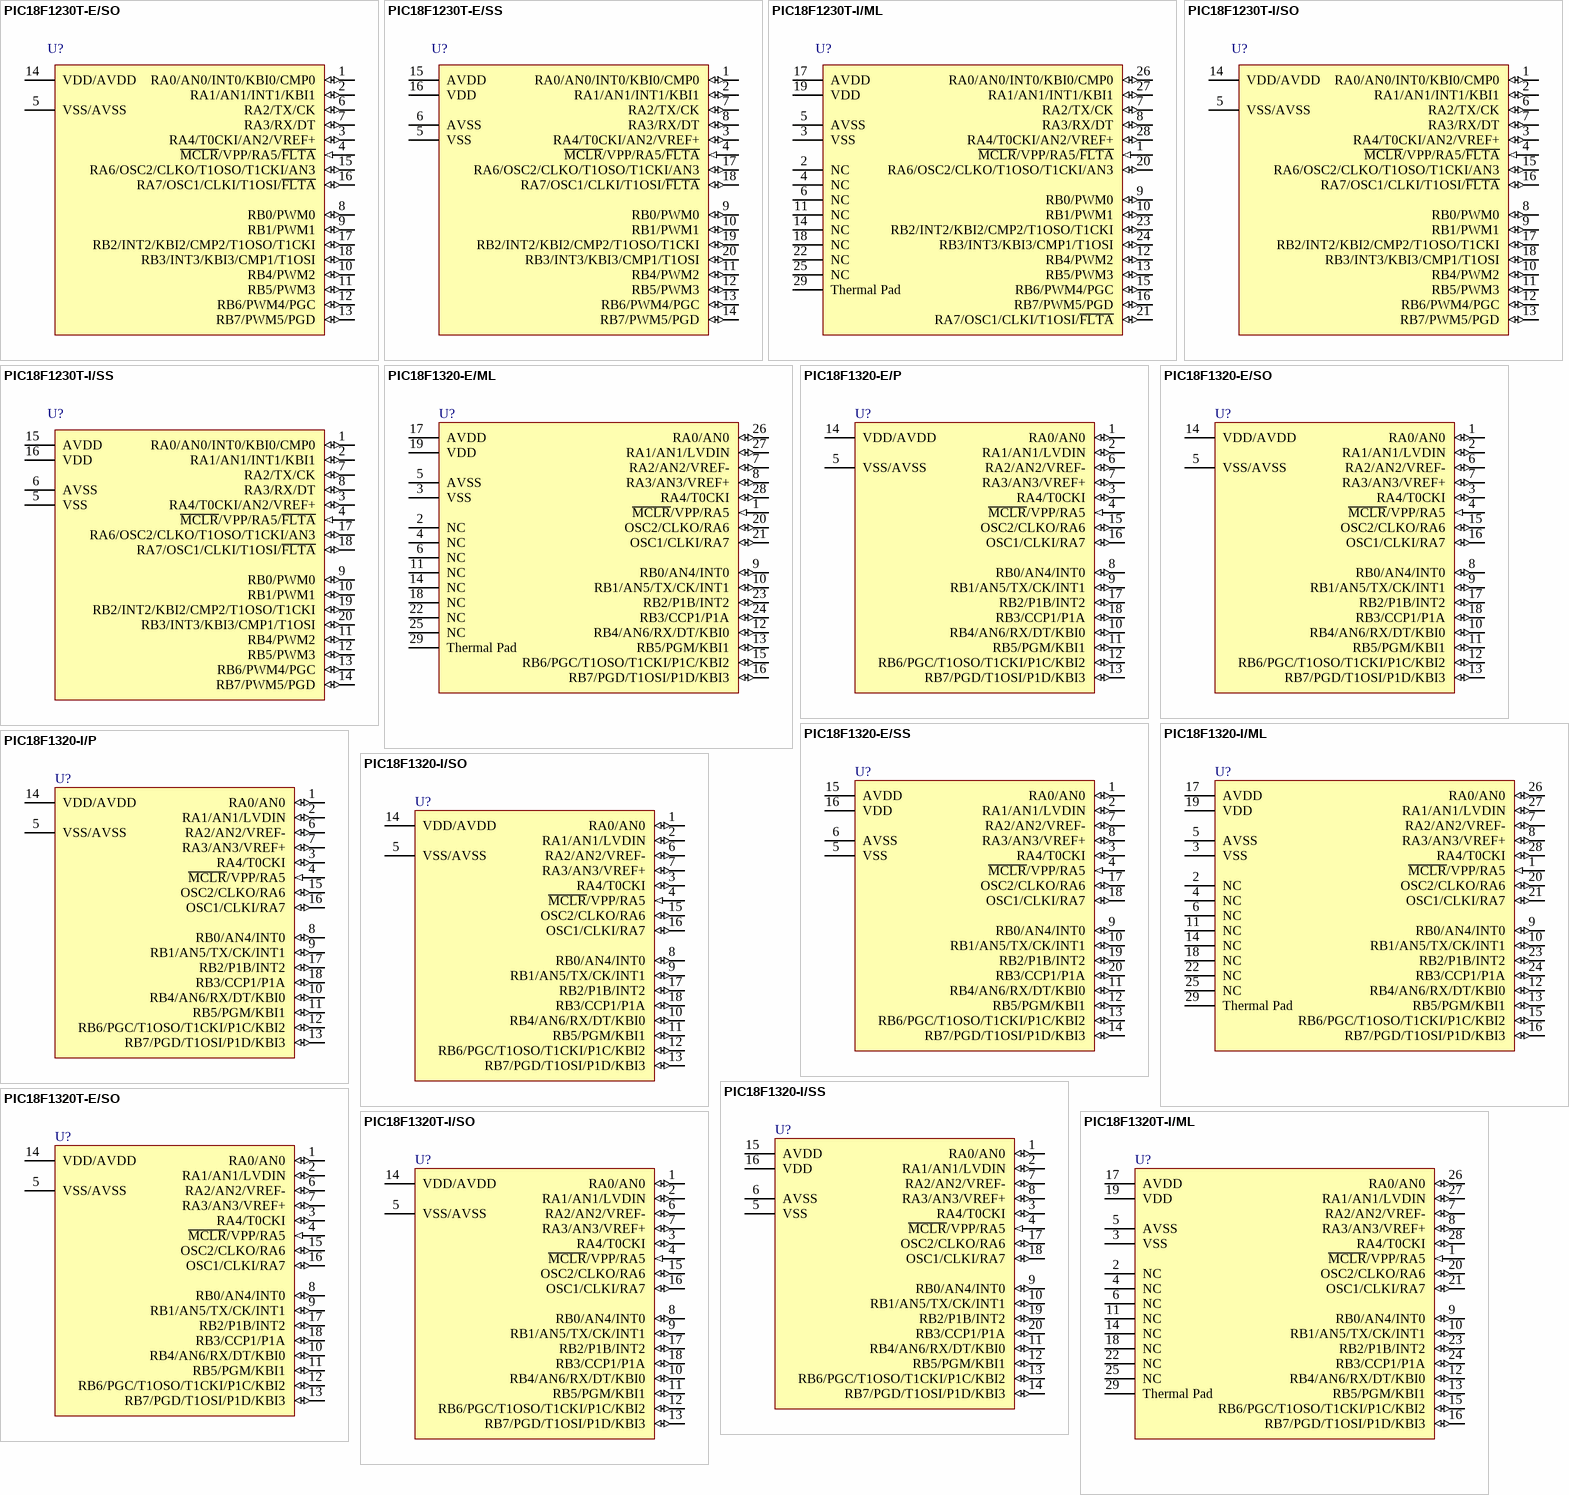
[diagram p93: symbols PIC18F1230T-E/SO to PIC18F1320T-I/SO]

## PIC18F1230T-E/SO
designator U?
Enhanced Flash Microcontroller with nanoWatt Technology, High Performance PWM and A/D, 4K Flash, 18-Pin SOIC, Extended Temperature, Tape and Reel; Manufacturer: Microchip; PartNumber: PIC18F1230T-E/SO; DatasheetVersion: revC, Mar-2007; PackageVersion: C04-051C, 12/2012; PackageReference: SOIC-SO18; PackageDescription: 18-Lead Plastic Small Outline, 7.5 x 11.55 mm Body, 1.27 mm Pitch; ComponentLink1Description: Manufacturer URL; ComponentLink1URL: http://www.microchip.com/; ComponentLink2Description: Datasheet; ComponentLink2URL: http://ww1.microchip.com/downloads/en/DeviceDoc/39758c.pdf; ComponentLink3Description: Package Specification; ComponentLink3URL: http://www.microchip.com/stellent/groups/techpub_sg/documents/packagingspec/en012702.pdf
footprint MCHP-SOIC-SO18_N (SOIC, 18-Leads, Body 11.55x7.5mm, Pitch 1.27mm, IPC Medium Density)
footprint MCHP-SOIC-SO18_L (SOIC, 18-Leads, Body 11.55x7.5mm, Pitch 1.27mm, IPC High Density)
footprint MCHP-SOIC-SO18_M (SOIC, 18-Leads, Body 11.55x7.5mm, Pitch 1.27mm, IPC Low Density)
pins: 1 RA0/AN0/INT0/KBI0/CMP0 (io), 2 RA1/AN1/INT1/KBI1 (io), 3 RA4/T0CKI/AN2/VREF+ (io), 4 ~{MCLR}/VPP/RA5/~{FLTA} (in), 5 VSS/AVSS (power), 6 RA2/TX/CK (io), 7 RA3/RX/DT (io), 8 RB0/PWM0 (io), 9 RB1/PWM1 (io), 10 RB4/PWM2 (io), 11 RB5/PWM3 (io), 12 RB6/PWM4/PGC (io), 13 RB7/PWM5/PGD (io), 14 VDD/AVDD (power), 15 RA6/OSC2/CLKO/T1OSO/T1CKI/AN3 (io), 16 RA7/OSC1/CLKI/T1OSI/~{FLTA} (io), 17 RB2/INT2/KBI2/CMP2/T1OSO/T1CKI (io), 18 RB3/INT3/KBI3/CMP1/T1OSI (io)

## PIC18F1230T-E/SS
designator U?
Enhanced Flash Microcontroller with nanoWatt Technology, High Performance PWM and A/D, 4K Flash, 20-Pin SSOP, Extended Temperature, Tape and Reel; Manufacturer: Microchip; PartNumber: PIC18F1230T-E/SS; DatasheetVersion: revC, Mar-2007; PackageVersion: C04-072B, 12/2012; PackageReference: SSOP-SS20; PackageDescription: 20-Lead Plastic Shrink Small Outline, 5.3 x 7.2 mm Body, 0.65 mm Pitch; ComponentLink1Description: Manufacturer URL; ComponentLink1URL: http://www.microchip.com/; ComponentLink2Description: Datasheet; ComponentLink2URL: http://ww1.microchip.com/downloads/en/DeviceDoc/39758c.pdf; ComponentLink3Description: Package Specification; ComponentLink3URL: http://www.microchip.com/stellent/groups/techpub_sg/documents/packagingspec/en012702.pdf
footprint MCHP-SSOP-SS20_N (SOP, 20-Leads, Body 7.2x5.3mm, Pitch 0.65mm, IPC Medium Density)
footprint MCHP-SSOP-SS20_L (SOP, 20-Leads, Body 7.2x5.3mm, Pitch 0.65mm, IPC High Density)
footprint MCHP-SSOP-SS20_M (SOP, 20-Leads, Body 7.2x5.3mm, Pitch 0.65mm, IPC Low Density)
pins: 1 RA0/AN0/INT0/KBI0/CMP0 (io), 2 RA1/AN1/INT1/KBI1 (io), 3 RA4/T0CKI/AN2/VREF+ (io), 4 ~{MCLR}/VPP/RA5/~{FLTA} (in), 5 VSS (power), 6 AVSS (power), 7 RA2/TX/CK (io), 8 RA3/RX/DT (io), 9 RB0/PWM0 (io), 10 RB1/PWM1 (io), 11 RB4/PWM2 (io), 12 RB5/PWM3 (io), 13 RB6/PWM4/PGC (io), 14 RB7/PWM5/PGD (io), 15 AVDD (power), 16 VDD (power), 17 RA6/OSC2/CLKO/T1OSO/T1CKI/AN3 (io), 18 RA7/OSC1/CLKI/T1OSI/~{FLTA} (io), 19 RB2/INT2/KBI2/CMP2/T1OSO/T1CKI (io), 20 RB3/INT3/KBI3/CMP1/T1OSI (io)

## PIC18F1230T-I/ML
designator U?
Enhanced Flash Microcontroller with nanoWatt Technology, High Performance PWM and A/D, 4K Flash, 28-Pin QFN, Industrial Temperature, Tape and Reel; Manufacturer: Microchip; PartNumber: PIC18F1230T-I/ML; DatasheetVersion: revC, Mar-2007; PackageVersion: C04-105C, 12/2012; PackageReference: QFN-ML28; PackageDescription: 28-Lead Plastic Quad Flat, 6 x 6 mm Body, 0.65 mm Pitch; ComponentLink1Description: Manufacturer URL; ComponentLink1URL: http://www.microchip.com/; ComponentLink2Description: Datasheet; ComponentLink2URL: http://ww1.microchip.com/downloads/en/DeviceDoc/39758c.pdf; ComponentLink3Description: Package Specification; ComponentLink3URL: http://www.microchip.com/stellent/groups/techpub_sg/documents/packagingspec/en012702.pdf
footprint MCHP-QFN-ML28_N (QFN, 28-Leads, Body 6x6mm, Pitch 0.65mm, Thermal Pad 3.7x3.7mm, IPC Medium Density)
footprint MCHP-QFN-ML28_L (QFN, 28-Leads, Body 6x6mm, Pitch 0.65mm, Thermal Pad 3.7x3.7mm, IPC High Density)
footprint MCHP-QFN-ML28_M (QFN, 28-Leads, Body 6x6mm, Pitch 0.65mm, Thermal Pad 3.7x3.7mm, IPC Low Density)
pins: 1 ~{MCLR}/VPP/RA5/~{FLTA} (in), 2 NC, 3 VSS (power), 4 NC, 5 AVSS (power), 6 NC, 7 RA2/TX/CK (io), 8 RA3/RX/DT (io), 9 RB0/PWM0 (io), 10 RB1/PWM1 (io), 11 NC, 12 RB4/PWM2 (io), 13 RB5/PWM3 (io), 14 NC, 15 RB6/PWM4/PGC (io), 16 RB7/PWM5/PGD (io), 17 AVDD (power), 18 NC, 19 VDD (power), 20 RA6/OSC2/CLKO/T1OSO/T1CKI/AN3 (io), 21 RA7/OSC1/CLKI/T1OSI/~{FLTA} (io), 22 NC, 23 RB2/INT2/KBI2/CMP2/T1OSO/T1CKI (io), 24 RB3/INT3/KBI3/CMP1/T1OSI (io), 25 NC, 26 RA0/AN0/INT0/KBI0/CMP0 (io), 27 RA1/AN1/INT1/KBI1 (io), 28 RA4/T0CKI/AN2/VREF+ (io), 29 Thermal Pad (power)

## PIC18F1230T-I/SO
designator U?
Enhanced Flash Microcontroller with nanoWatt Technology, High Performance PWM and A/D, 4K Flash, 18-Pin SOIC, Industrial Temperature, Tape and Reel; Manufacturer: Microchip; PartNumber: PIC18F1230T-I/SO; DatasheetVersion: revC, Mar-2007; PackageVersion: C04-051C, 12/2012; PackageReference: SOIC-SO18; PackageDescription: 18-Lead Plastic Small Outline, 7.5 x 11.55 mm Body, 1.27 mm Pitch; ComponentLink1Description: Manufacturer URL; ComponentLink1URL: http://www.microchip.com/; ComponentLink2Description: Datasheet; ComponentLink2URL: http://ww1.microchip.com/downloads/en/DeviceDoc/39758c.pdf; ComponentLink3Description: Package Specification; ComponentLink3URL: http://www.microchip.com/stellent/groups/techpub_sg/documents/packagingspec/en012702.pdf
footprint MCHP-SOIC-SO18_N (SOIC, 18-Leads, Body 11.55x7.5mm, Pitch 1.27mm, IPC Medium Density)
footprint MCHP-SOIC-SO18_L (SOIC, 18-Leads, Body 11.55x7.5mm, Pitch 1.27mm, IPC High Density)
footprint MCHP-SOIC-SO18_M (SOIC, 18-Leads, Body 11.55x7.5mm, Pitch 1.27mm, IPC Low Density)
pins: 1 RA0/AN0/INT0/KBI0/CMP0 (io), 2 RA1/AN1/INT1/KBI1 (io), 3 RA4/T0CKI/AN2/VREF+ (io), 4 ~{MCLR}/VPP/RA5/~{FLTA} (in), 5 VSS/AVSS (power), 6 RA2/TX/CK (io), 7 RA3/RX/DT (io), 8 RB0/PWM0 (io), 9 RB1/PWM1 (io), 10 RB4/PWM2 (io), 11 RB5/PWM3 (io), 12 RB6/PWM4/PGC (io), 13 RB7/PWM5/PGD (io), 14 VDD/AVDD (power), 15 RA6/OSC2/CLKO/T1OSO/T1CKI/AN3 (io), 16 RA7/OSC1/CLKI/T1OSI/~{FLTA} (io), 17 RB2/INT2/KBI2/CMP2/T1OSO/T1CKI (io), 18 RB3/INT3/KBI3/CMP1/T1OSI (io)

## PIC18F1230T-I/SS
designator U?
Enhanced Flash Microcontroller with nanoWatt Technology, High Performance PWM and A/D, 4K Flash, 20-Pin SSOP, Industrial Temperature, Tape and Reel; Manufacturer: Microchip; PartNumber: PIC18F1230T-I/SS; DatasheetVersion: revC, Mar-2007; PackageVersion: C04-072B, 12/2012; PackageReference: SSOP-SS20; PackageDescription: 20-Lead Plastic Shrink Small Outline, 5.3 x 7.2 mm Body, 0.65 mm Pitch; ComponentLink1Description: Manufacturer URL; ComponentLink1URL: http://www.microchip.com/; ComponentLink2Description: Datasheet; ComponentLink2URL: http://ww1.microchip.com/downloads/en/DeviceDoc/39758c.pdf; ComponentLink3Description: Package Specification; ComponentLink3URL: http://www.microchip.com/stellent/groups/techpub_sg/documents/packagingspec/en012702.pdf
footprint MCHP-SSOP-SS20_N (SOP, 20-Leads, Body 7.2x5.3mm, Pitch 0.65mm, IPC Medium Density)
footprint MCHP-SSOP-SS20_L (SOP, 20-Leads, Body 7.2x5.3mm, Pitch 0.65mm, IPC High Density)
footprint MCHP-SSOP-SS20_M (SOP, 20-Leads, Body 7.2x5.3mm, Pitch 0.65mm, IPC Low Density)
pins: 1 RA0/AN0/INT0/KBI0/CMP0 (io), 2 RA1/AN1/INT1/KBI1 (io), 3 RA4/T0CKI/AN2/VREF+ (io), 4 ~{MCLR}/VPP/RA5/~{FLTA} (in), 5 VSS (power), 6 AVSS (power), 7 RA2/TX/CK (io), 8 RA3/RX/DT (io), 9 RB0/PWM0 (io), 10 RB1/PWM1 (io), 11 RB4/PWM2 (io), 12 RB5/PWM3 (io), 13 RB6/PWM4/PGC (io), 14 RB7/PWM5/PGD (io), 15 AVDD (power), 16 VDD (power), 17 RA6/OSC2/CLKO/T1OSO/T1CKI/AN3 (io), 18 RA7/OSC1/CLKI/T1OSI/~{FLTA} (io), 19 RB2/INT2/KBI2/CMP2/T1OSO/T1CKI (io), 20 RB3/INT3/KBI3/CMP1/T1OSI (io)

## PIC18F1320-E/ML
designator U?
High Performance, Enhanced Flash Microcontroller with 10-Bit A/D and nanoWatt Technology, 8K Flash, 28-Pin QFN, Extended Temperature; Manufacturer: Microchip; PartNumber: PIC18F1320-E/ML; DatasheetVersion: revF, Feb-2007; PackageVersion: C04-105C, 12/2012; PackageReference: QFN-ML28; PackageDescription: 28-Lead Plastic Quad Flat, 6 x 6 mm Body, 0.65 mm Pitch; ComponentLink1Description: Manufacturer URL; ComponentLink1URL: http://www.microchip.com/; ComponentLink2Description: Datasheet; ComponentLink2URL: http://ww1.microchip.com/downloads/en/DeviceDoc/39605F.pdf; ComponentLink3Description: Package Specification; ComponentLink3URL: http://www.microchip.com/stellent/groups/techpub_sg/documents/packagingspec/en012702.pdf
footprint MCHP-QFN-ML28_N (QFN, 28-Leads, Body 6x6mm, Pitch 0.65mm, Thermal Pad 3.7x3.7mm, IPC Medium Density)
footprint MCHP-QFN-ML28_L (QFN, 28-Leads, Body 6x6mm, Pitch 0.65mm, Thermal Pad 3.7x3.7mm, IPC High Density)
footprint MCHP-QFN-ML28_M (QFN, 28-Leads, Body 6x6mm, Pitch 0.65mm, Thermal Pad 3.7x3.7mm, IPC Low Density)
pins: 1 ~{MCLR}/VPP/RA5 (in), 2 NC, 3 VSS (power), 4 NC, 5 AVSS (power), 6 NC, 7 RA2/AN2/VREF- (io), 8 RA3/AN3/VREF+ (io), 9 RB0/AN4/INT0 (io), 10 RB1/AN5/TX/CK/INT1 (io), 11 NC, 12 RB4/AN6/RX/DT/KBI0 (io), 13 RB5/PGM/KBI1 (io), 14 NC, 15 RB6/PGC/T1OSO/T1CKI/P1C/KBI2 (io), 16 RB7/PGD/T1OSI/P1D/KBI3 (io), 17 AVDD (power), 18 NC, 19 VDD (power), 20 OSC2/CLKO/RA6 (io), 21 OSC1/CLKI/RA7 (io), 22 NC, 23 RB2/P1B/INT2 (io), 24 RB3/CCP1/P1A (io), 25 NC, 26 RA0/AN0 (io), 27 RA1/AN1/LVDIN (io), 28 RA4/T0CKI (io), 29 Thermal Pad (power)

## PIC18F1320-E/P
designator U?
High Performance, Enhanced Flash Microcontroller with 10-Bit A/D and nanoWatt Technology, 8K Flash, 18-Pin PDIP, Extended Temperature; Manufacturer: Microchip; PartNumber: PIC18F1320-E/P; DatasheetVersion: revF, Feb-2007; PackageVersion: revBB, Aug-2009; PackageReference: PDIP300-P18; PackageDescription: 18-Lead Plastic Dual In-Line (P) - 300 mil Body [PDIP]; Code_JEDEC: MS-001; ComponentLink1Description: Manufacturer URL; ComponentLink1URL: http://www.microchip.com/; ComponentLink2Description: Datasheet; ComponentLink2URL: http://ww1.microchip.com/downloads/en/DeviceDoc/39605F.pdf; ComponentLink3Description: Package Specification; ComponentLink3URL: http://www.microchip.com/stellent/groups/techpub_sg/documents/packagingspec/en012702.pdf
footprint PDIP300-P18 (DIP, 18-Leads, Row Spacing 7.62mm, Pitch 2.54mm, Body 22.9x6.6mm)
pins: 1 RA0/AN0 (io), 2 RA1/AN1/LVDIN (io), 3 RA4/T0CKI (io), 4 ~{MCLR}/VPP/RA5 (in), 5 VSS/AVSS (power), 6 RA2/AN2/VREF- (io), 7 RA3/AN3/VREF+ (io), 8 RB0/AN4/INT0 (io), 9 RB1/AN5/TX/CK/INT1 (io), 10 RB4/AN6/RX/DT/KBI0 (io), 11 RB5/PGM/KBI1 (io), 12 RB6/PGC/T1OSO/T1CKI/P1C/KBI2 (io), 13 RB7/PGD/T1OSI/P1D/KBI3 (io), 14 VDD/AVDD (power), 15 OSC2/CLKO/RA6 (io), 16 OSC1/CLKI/RA7 (io), 17 RB2/P1B/INT2 (io), 18 RB3/CCP1/P1A (io)

## PIC18F1320-E/SO
designator U?
High Performance, Enhanced Flash Microcontroller with 10-Bit A/D and nanoWatt Technology, 8K Flash, 18-Pin SOIC, Extended Temperature; Manufacturer: Microchip; PartNumber: PIC18F1320-E/SO; DatasheetVersion: revF, Feb-2007; PackageVersion: C04-051C, 12/2012; PackageReference: SOIC-SO18; PackageDescription: 18-Lead Plastic Small Outline, 7.5 x 11.55 mm Body, 1.27 mm Pitch; ComponentLink1Description: Manufacturer URL; ComponentLink1URL: http://www.microchip.com/; ComponentLink2Description: Datasheet; ComponentLink2URL: http://ww1.microchip.com/downloads/en/DeviceDoc/39605F.pdf; ComponentLink3Description: Package Specification; ComponentLink3URL: http://www.microchip.com/stellent/groups/techpub_sg/documents/packagingspec/en012702.pdf
footprint MCHP-SOIC-SO18_N (SOIC, 18-Leads, Body 11.55x7.5mm, Pitch 1.27mm, IPC Medium Density)
footprint MCHP-SOIC-SO18_L (SOIC, 18-Leads, Body 11.55x7.5mm, Pitch 1.27mm, IPC High Density)
footprint MCHP-SOIC-SO18_M (SOIC, 18-Leads, Body 11.55x7.5mm, Pitch 1.27mm, IPC Low Density)
pins: 1 RA0/AN0 (io), 2 RA1/AN1/LVDIN (io), 3 RA4/T0CKI (io), 4 ~{MCLR}/VPP/RA5 (in), 5 VSS/AVSS (power), 6 RA2/AN2/VREF- (io), 7 RA3/AN3/VREF+ (io), 8 RB0/AN4/INT0 (io), 9 RB1/AN5/TX/CK/INT1 (io), 10 RB4/AN6/RX/DT/KBI0 (io), 11 RB5/PGM/KBI1 (io), 12 RB6/PGC/T1OSO/T1CKI/P1C/KBI2 (io), 13 RB7/PGD/T1OSI/P1D/KBI3 (io), 14 VDD/AVDD (power), 15 OSC2/CLKO/RA6 (io), 16 OSC1/CLKI/RA7 (io), 17 RB2/P1B/INT2 (io), 18 RB3/CCP1/P1A (io)

## PIC18F1320-E/SS
designator U?
High Performance, Enhanced Flash Microcontroller with 10-Bit A/D and nanoWatt Technology, 8K Flash, 20-Pin SSOP, Extended Temperature; Manufacturer: Microchip; PartNumber: PIC18F1320-E/SS; DatasheetVersion: revF, Feb-2007; PackageVersion: C04-072B, 12/2012; PackageReference: SSOP-SS20; PackageDescription: 20-Lead Plastic Shrink Small Outline, 5.3 x 7.2 mm Body, 0.65 mm Pitch; ComponentLink1Description: Manufacturer URL; ComponentLink1URL: http://www.microchip.com/; ComponentLink2Description: Datasheet; ComponentLink2URL: http://ww1.microchip.com/downloads/en/DeviceDoc/39605F.pdf; ComponentLink3Description: Package Specification; ComponentLink3URL: http://www.microchip.com/stellent/groups/techpub_sg/documents/packagingspec/en012702.pdf
footprint MCHP-SSOP-SS20_N (SOP, 20-Leads, Body 7.2x5.3mm, Pitch 0.65mm, IPC Medium Density)
footprint MCHP-SSOP-SS20_L (SOP, 20-Leads, Body 7.2x5.3mm, Pitch 0.65mm, IPC High Density)
footprint MCHP-SSOP-SS20_M (SOP, 20-Leads, Body 7.2x5.3mm, Pitch 0.65mm, IPC Low Density)
pins: 1 RA0/AN0 (io), 2 RA1/AN1/LVDIN (io), 3 RA4/T0CKI (io), 4 ~{MCLR}/VPP/RA5 (in), 5 VSS (power), 6 AVSS (power), 7 RA2/AN2/VREF- (io), 8 RA3/AN3/VREF+ (io), 9 RB0/AN4/INT0 (io), 10 RB1/AN5/TX/CK/INT1 (io), 11 RB4/AN6/RX/DT/KBI0 (io), 12 RB5/PGM/KBI1 (io), 13 RB6/PGC/T1OSO/T1CKI/P1C/KBI2 (io), 14 RB7/PGD/T1OSI/P1D/KBI3 (io), 15 AVDD (power), 16 VDD (power), 17 OSC2/CLKO/RA6 (io), 18 OSC1/CLKI/RA7 (io), 19 RB2/P1B/INT2 (io), 20 RB3/CCP1/P1A (io)